# EAGLE library part MOLEX_MINIFIT-24 (library molex_mini-fit)
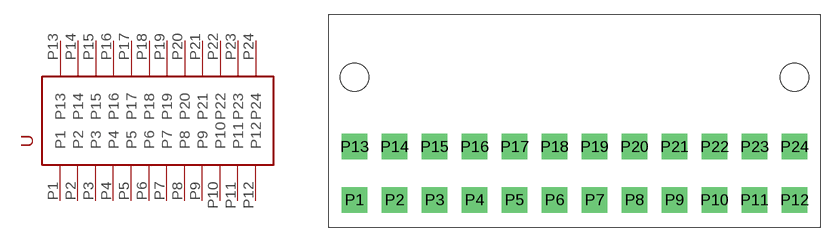
[diagram p6: symbol with the pads of MOLEX_MINIFIT-24; footprint MOLEX_MINIFIT-24]

Designator prefix -

## MOLEX_MINIFIT-24  [MOLEX_MINIFIT-24]
P1  P1
P2  P2
P3  P3
P4  P4
P5  P5
P6  P6
P7  P7
P8  P8
P9  P9
P10  P10
P11  P11
P12  P12
P13  P13
P14  P14
P15  P15
P16  P16
P17  P17
P18  P18
P19  P19
P20  P20
P21  P21
P22  P22
P23  P23
P24  P24

## Footprint MOLEX_MINIFIT-24 (pad centres in mm)
drill 1.778 pad 2.54 square: P1 -23.1,-2.794; P2 -18.9,-2.794; P3 -14.7,-2.794; P4 -10.5,-2.794; P5 -6.3,-2.794; P6 -2.1,-2.794; P7 2.1,-2.794; P8 6.3,-2.794; P9 10.5,-2.794; P10 14.7,-2.794; P11 18.9,-2.794; P12 23.1,-2.794; P13 -23.1,2.794; P14 -18.9,2.794; P15 -14.7,2.794; P16 -10.5,2.794; P17 -6.3,2.794; P18 -2.1,2.794; P19 2.1,2.794; P20 6.3,2.794; P21 10.5,2.794; P22 14.7,2.794; P23 18.9,2.794; P24 23.1,2.794
hole 2.946 at -23.1,10.094
hole 2.946 at 23.1,10.094